# Altium footprint library SN74AVC4T774RGYR_Voltage_Level_Translator_Bidirectional.PcbLib: 1 footprints
Each footprint in its own frame and in the unit in brackets; x right, y up, seen from the top. Pads: shape width x height; smd on the part's side, far side on the other; paste and mask are expansions set on the pad; w line width, h text height; cw(c..) or ccw(c..) is an arc to the next point about the centre after c.
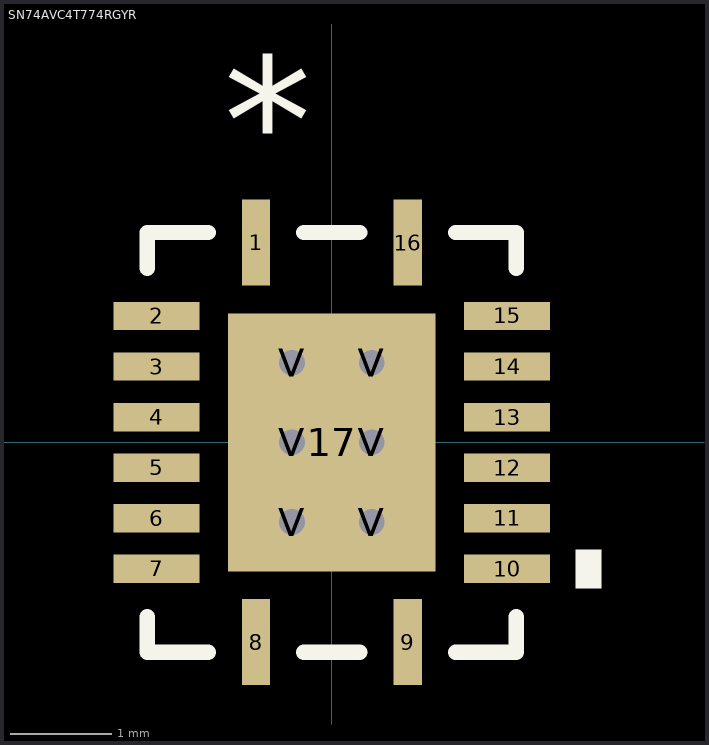
[diagram p0: the footprint, top view; thin cyan lines are the x and y axes]

## SN74AVC4T774RGYR [mm] "Voltage Level Translator Bidirectional"
pads (23):
  rect 0.28x0.85 smd paste-0.14 mask-0.419: 1(-0.75,1.975) 8(-0.75,-1.975) 9(0.75,-1.975) 16(0.75,1.975)
  rect 0.85x0.28 smd paste-0.14 mask-0.419: 2(-1.733,1.25) 3(-1.733,0.75) 4(-1.733,0.25) 5(-1.733,-0.25) 6(-1.733,-0.75) 7(-1.733,-1.25) 10(1.733,-1.25) 11(1.733,-0.75) 12(1.733,-0.25) 13(1.733,0.25) 14(1.733,0.75) 15(1.733,1.25)
  rect 2.05x2.55 smd paste-1.262 mask-1.257: 17(0,0)
  round 0.508 / inner round 1.524 / far side round 0.508 hole 0.254 paste-0.254 mask-0.254: V(-0.394,-0.787) V(-0.394,0) V(-0.394,0.787) V(0.394,-0.787) V(0.394,0) V(0.394,0.787)
Top Layer:
  region: 0,-1.275
  region: 0,1.275
Top Overlay:
  region: 2.412,-1.06 2.666,-1.06 2.666,-1.441 2.412,-1.441
  lines w0.152: -1.825,-1.723 -1.825,-2.075 -1.223,-2.075 ; -1.825,1.723 -1.825,2.075 -1.223,2.075 ; -0.277,-2.075 0.277,-2.075 ; -0.277,2.075 0.277,2.075 ; 1.223,-2.075 1.825,-2.075 1.825,-1.723 ; 1.223,2.075 1.825,2.075 1.825,1.723
  text "*" at -1.068,2.552 h1.27
Top Paste:
  drawing of 32 lines, arcs and shapes, not listed
Top Solder:
  region: 0.594,-1.338 0.594,1.338 1.088,1.338 1.088,-1.338
  region: 0.194,-1.338 0.194,1.338 -0.194,1.338 -0.194,-1.338
  region: -1.088,-1.338 -1.088,1.338 -0.594,1.338 -0.594,-1.338
  region: -1.088,-1.338 -1.088,-0.987 1.088,-0.987 1.088,-1.338
  region: -1.088,-0.587 -1.088,-0.2 1.088,-0.2 1.088,-0.587
  region: -1.088,0.2 -1.088,0.587 1.088,0.587 1.088,0.2
  region: -1.088,0.987 -1.088,1.338 1.088,1.338 1.088,0.987
  region: 0,-1.275
  region: 0,1.275
  region: -0.54,2.47 -0.96,2.47 -0.96,1.48 -0.54,1.48
  region: 0.96,2.47 0.54,2.47 0.54,1.48 0.96,1.48
  region: 2.228,1.46 1.238,1.46 1.238,1.04 2.228,1.04
  region: 2.228,0.96 1.238,0.96 1.238,0.54 2.228,0.54
  region: 2.228,0.46 1.238,0.46 1.238,0.04 2.228,0.04
  region: 2.228,-0.04 1.238,-0.04 1.238,-0.46 2.228,-0.46
  region: 2.228,-0.54 1.238,-0.54 1.238,-0.96 2.228,-0.96
  region: 2.228,-1.04 1.238,-1.04 1.238,-1.46 2.228,-1.46
  region: 0.96,-1.48 0.54,-1.48 0.54,-2.47 0.96,-2.47
  region: -0.54,-1.48 -0.96,-1.48 -0.96,-2.47 -0.54,-2.47
  region: -1.238,-1.04 -2.228,-1.04 -2.228,-1.46 -1.238,-1.46
  region: -1.238,-0.54 -2.228,-0.54 -2.228,-0.96 -1.238,-0.96
  region: -1.238,-0.04 -2.228,-0.04 -2.228,-0.46 -1.238,-0.46
  region: -1.238,0.46 -2.228,0.46 -2.228,0.04 -1.238,0.04
  region: -1.238,0.96 -2.228,0.96 -2.228,0.54 -1.238,0.54
  region: -1.238,1.46 -2.228,1.46 -2.228,1.04 -1.238,1.04
Mechanical 13:
  text "*" at -1.068,2.552 h1.27